# Altium footprint library Connectors_Misc.PcbLib: 46 footprints (part 3 of 3)
Each footprint in its own frame and in the unit in brackets; x right, y up, seen from the top. Pads: shape width x height; smd on the part's side, far side on the other; paste and mask are expansions set on the pad; w line width, h text height; cw(c..) or ccw(c..) is an arc to the next point about the centre after c.
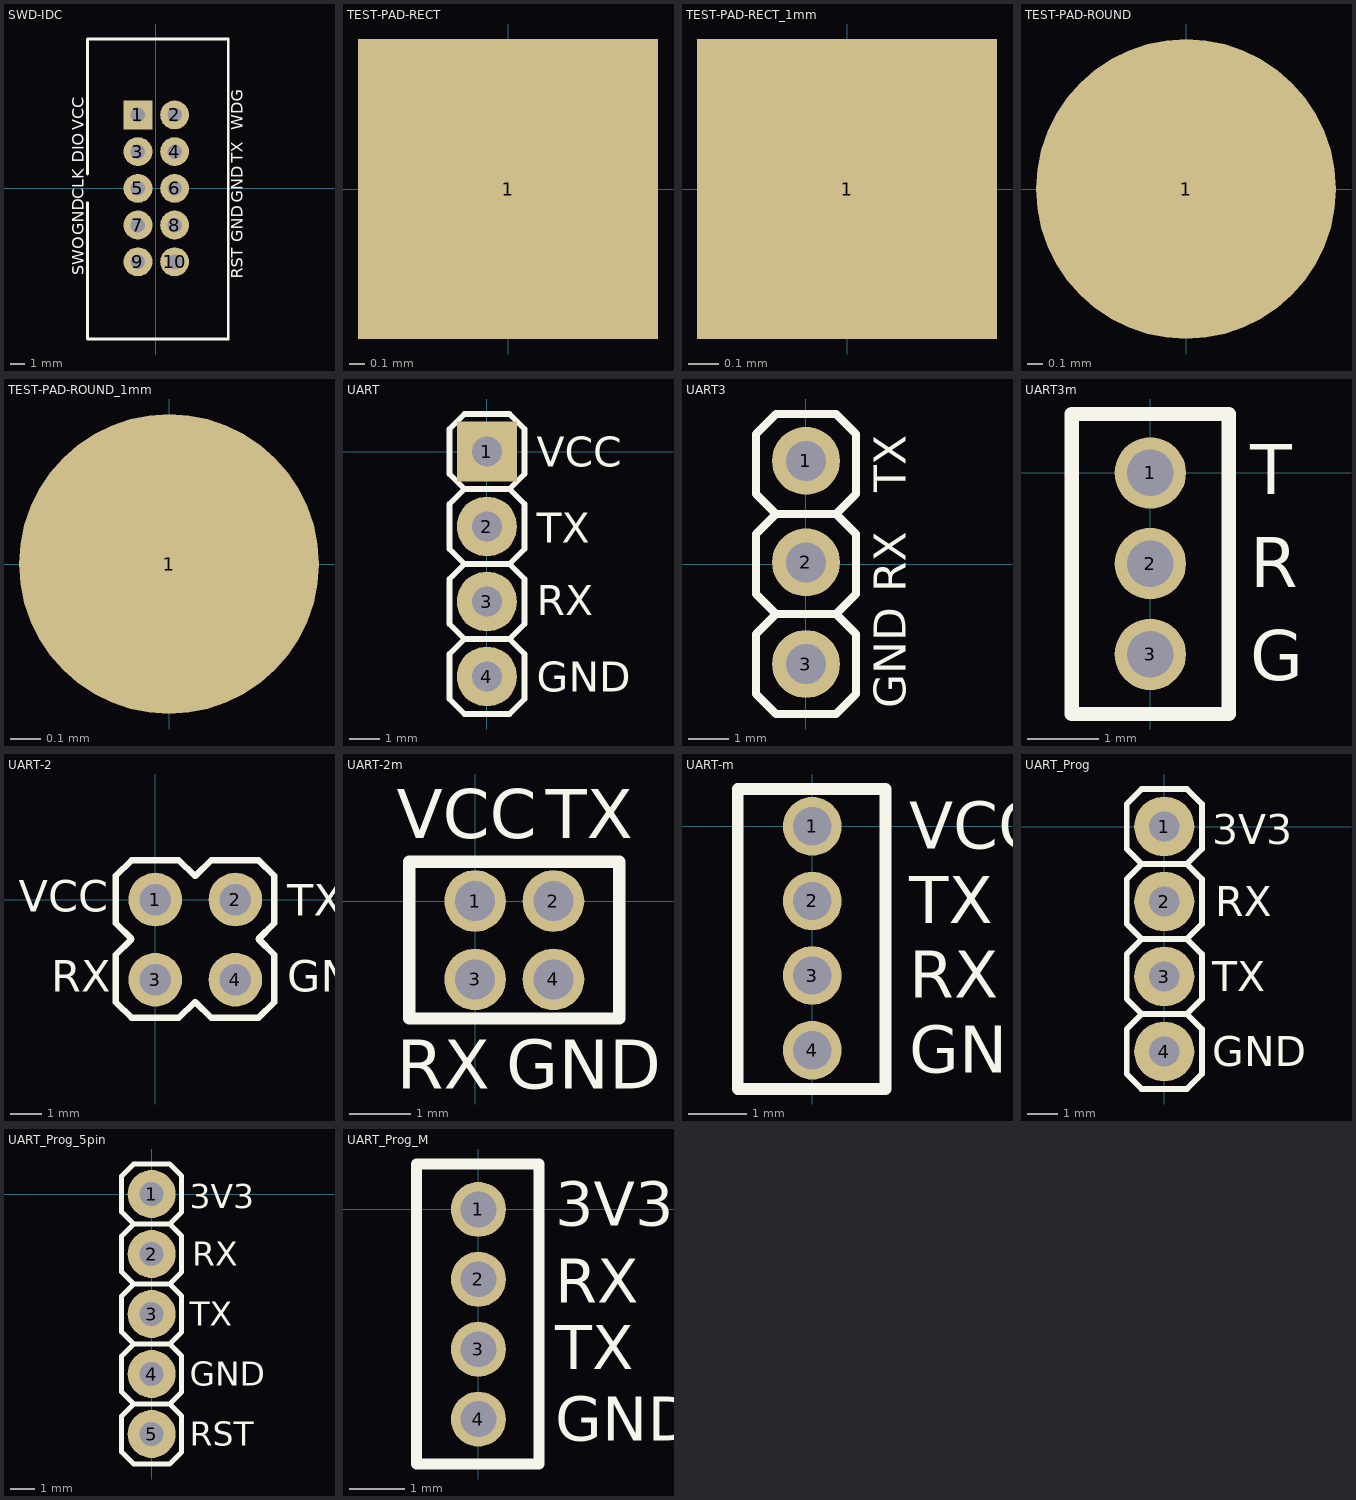
[diagram p2: the footprints below, top view; thin cyan lines are the x and y axes]

## SWD-IDC [mm]
pads (10):
  rect 2x2 hole 1: 1(-1.25,5.075)
  round 2 hole 1: 2(1.29,5.075) 3(-1.25,2.535) 4(1.29,2.535) 5(-1.25,-0.005) 6(1.29,-0.005) 7(-1.25,-2.545) 8(1.29,-2.545) 9(-1.25,-5.085) 10(1.29,-5.085)
Top Overlay:
  lines w0.2: -4.75,-1 -4.75,-10.425 5,-10.425 5,10.325 -4.75,10.325 -4.75,1
  text "RST" at 6,-6.25 h0.8
  text "GND" at 6,-3.75 h0.8
  text "GND" at 6,-1 h0.8
  text "TX" at 6,1.75 h0.8
  text "WDG" at 6,4 h0.8
  text "SWO" at -5,-6 h0.8
  text "GND" at -5,-3.25 h0.8
  text "CLK" at -5,-0.75 h0.8
  text "DIO" at -5,1.75 h0.8
  text "VCC" at -5,4 h0.8
3D body "User Library-BH-10__64BH-10.STEP": height 9.1, standoff -3, extent -4.53,-10.305 4.77,10.195

## TEST-PAD-RECT [mm]
pads (1):
  rect 2x2 smd paste-1: 1(0,0)

## TEST-PAD-RECT_1mm [mm]
pads (1):
  rect 1x1 smd paste-1: 1(0,0)

## TEST-PAD-ROUND [mm]
pads (1):
  round 2 smd paste-1: 1(0,0)

## TEST-PAD-ROUND_1mm [mm]
pads (1):
  round 1 smd paste-1: 1(0,0)

## UART [mm]
pads (4):
  rect 2x2 hole 1: 1(0,0)
  round 2 hole 1: 2(0,-2.5) 3(0,-5) 4(0,-7.5)
Top Overlay:
  lines w0.2: -0.75,-6.25 -1.25,-6.75 -1.25,-8.25 -0.75,-8.75 0.75,-8.75 1.25,-8.25 1.25,-6.75 0.75,-6.25 ; -0.75,-6.25 -1.25,-5.75 -1.25,-4.25 -0.75,-3.75 ; -0.75,-6.25 0.75,-6.25 ; -0.75,-3.75 0.75,-3.75 ; -0.75,-3.75 -1.25,-3.25 -1.25,-1.75 -0.75,-1.25 ; -0.75,-1.25 -1.25,-0.75 -1.25,0.75 -0.75,1.25 0.75,1.25 1.25,0.75 1.25,-0.75 0.75,-1.25 ; -0.75,-1.25 0.75,-1.25 ; 0.75,-6.25 1.25,-5.75 1.25,-4.25 0.75,-3.75 ; 0.75,-3.75 1.25,-3.25 1.25,-1.75 0.75,-1.25
  text "GND" at 1.651,-8.001 h1
  text "RX" at 1.651,-5.461 h1
  text "TX" at 1.651,-3.048 h1
  text "VCC" at 1.651,-0.508 h1
3D body "User Library-PLS-1.STEP": height 8.44, standoff -3, extent -1.27,-8.77 1.27,-6.23
3D body "User Library-PLS-1.STEP": height 8.44, standoff -3, extent -1.27,-6.27 1.27,-3.73
3D body "User Library-PLS-1.STEP": height 8.44, standoff -3, extent -1.27,-3.77 1.27,-1.23
3D body "User Library-PLS-1.STEP": height 8.44, standoff -3, extent -1.27,-1.27 1.27,1.27

## UART3 [mm] "UART connector 3pin"
pads (3):
  round 1.7 hole 1 paste+0: 1(0,2.58) 2(0,0.04) 3(0,-2.5)
Top Overlay:
  lines w0.2: -0.75,-1.25 -1.25,-0.75 -1.25,0.75 -0.75,1.25 ; -0.75,-1.25 -1.25,-1.75 -1.25,-3.25 -0.75,-3.75 0.75,-3.75 1.25,-3.25 1.25,-1.75 0.75,-1.25 ; -0.75,-1.25 0.75,-1.25 ; -0.75,1.25 -1.25,1.75 -1.25,3.25 -0.75,3.75 0.75,3.75 1.25,3.25 1.25,1.75 0.75,1.25 ; -0.75,1.25 0.75,1.25 ; 0.75,-1.25 1.25,-0.75 1.25,0.75 0.75,1.25
  text "TX" at 2.5,1.8 h0.8
  text "RX" at 2.5,-0.7 h0.8
  text "GND" at 2.5,-3.6 h0.8
3D body "User Library-PLS-1.STEP": height 8.44, standoff -3, extent -1.27,1.31 1.27,3.85
3D body "User Library-PLS-1.STEP": height 8.44, standoff -3, extent -1.27,-1.23 1.27,1.31
3D body "User Library-PLS-1.STEP": height 8.44, standoff -3, extent -1.27,-3.77 1.27,-1.23

## UART3m [mm] "UART 3pin PLL"
pads (3):
  round 1 hole 0.65: 1(0,0) 2(0,-1.27) 3(0,-2.54)
Top Overlay:
  lines w0.2: -1.1,-3.375 1.1,-3.375 1.1,0.825 -1.1,0.825 -1.1,-3.375
  text "T" at 1.4,-0.3 h0.7
  text "R" at 1.4,-1.6 h0.7
  text "G" at 1.4,-2.9 h0.7
3D body "PLL-3.stp": height 5.2, standoff -2.9, extent -1.1,-3.38 1.1,0.84

## UART-2 [mm]
pads (4):
  round 1.7 hole 1 paste+0: 1(0,0) 2(2.54,0) 3(0,-2.54) 4(2.54,-2.54)
Top Overlay:
  lines w0.2: 1.25,-3.25 0.75,-3.75 -0.75,-3.75 -1.25,-3.25 -1.25,-1.75 -0.75,-1.25 -1.25,-0.75 -1.25,0.75 -0.75,1.25 0.75,1.25 1.25,0.75 ; 1.275,-3.25 1.775,-3.75 3.275,-3.75 3.775,-3.25 3.775,-1.75 3.275,-1.25 3.775,-0.75 3.775,0.75 3.275,1.25 1.775,1.25 1.275,0.75
  text "VCC" at -4.318,-0.381 h1
  text "TX" at 4.191,-0.508 h1
  text "RX" at -3.302,-2.921 h1
  text "GND" at 4.191,-2.921 h1
3D body "User Library-PLS-1.STEP": height 8.44, standoff -3, extent -1.27,-1.27 1.27,1.27
3D body "User Library-PLS-1.STEP": height 8.44, standoff -3, extent 1.27,-1.27 3.81,1.27
3D body "User Library-PLS-1.STEP": height 8.44, standoff -3, extent -1.27,-3.81 1.27,-1.27
3D body "User Library-PLS-1.STEP": height 8.44, standoff -3, extent 1.27,-3.81 3.81,-1.27

## UART-2m [mm]
pads (4):
  round 1 hole 0.65: 1(0,0) 2(1.27,0) 3(0,-1.27) 4(1.27,-1.27)
Top Overlay:
  lines w0.2: -1.067,-1.905 2.337,-1.905 2.337,0.635 -1.067,0.635 -1.067,-1.905
  text "VCC" at -1.27,1.016 h0.8
  text "TX" at 1.143,1.016 h0.8
  text "RX" at -1.27,-3.048 h0.8
  text "GND" at 0.508,-3.048 h0.8
3D body "PLL-2.stp": height 5.2, standoff -2.9, extent -1.1,-2.1 1.1,0.85
3D body "PLL-2.stp": height 5.2, standoff -2.9, extent 0.17,-2.1 2.37,0.85

## UART-m [mm]
pads (4):
  round 1 hole 0.65: 1(0,0) 2(0,-1.27) 3(0,-2.54) 4(0,-3.81)
Top Overlay:
  lines w0.2: -1.27,-4.47 1.245,-4.47 1.245,0.635 -1.27,0.635 -1.27,-4.47
  text "VCC" at 1.651,-0.381 h0.8
  text "TX" at 1.651,-1.651 h0.8
  text "RX" at 1.651,-2.921 h0.8
  text "GND" at 1.651,-4.191 h0.8
3D body "PLL-2.stp": height 5.2, standoff -2.9, extent -1.1,-2.1 1.1,0.85
3D body "PLL-2.stp": height 5.2, standoff -2.9, extent -1.1,-4.64 1.1,-1.69

## UART_Prog [mm] "UART_Prog"
pads (4):
  round 2 hole 1: 1(0,0) 2(0,-2.5) 3(0,-5) 4(0,-7.5)
Top Overlay:
  lines w0.2: -0.75,-6.25 0.75,-6.25 ; -0.75,-6.25 -1.25,-5.75 -1.25,-4.25 -0.75,-3.75 ; -0.75,-6.25 -1.25,-6.75 -1.25,-8.25 -0.75,-8.75 0.75,-8.75 1.25,-8.25 1.25,-6.75 0.75,-6.25 ; -0.75,-3.75 -1.25,-3.25 -1.25,-1.75 -0.75,-1.25 ; -0.75,-3.75 0.75,-3.75 ; -0.75,-1.25 0.75,-1.25 ; -0.75,-1.25 -1.25,-0.75 -1.25,0.75 -0.75,1.25 0.75,1.25 1.25,0.75 1.25,-0.75 0.75,-1.25 ; 0.75,-6.25 1.25,-5.75 1.25,-4.25 0.75,-3.75 ; 0.75,-3.75 1.25,-3.25 1.25,-1.75 0.75,-1.25
  text "3V3" at 1.6,-0.6 h1
  text "RX" at 1.7,-3 h1
  text "TX" at 1.6,-5.5 h1
  text "GND" at 1.6,-8 h1
3D body "User Library-PLS-1.STEP": height 8.44, standoff -3, extent -1.27,-8.85 1.27,-6.31
3D body "User Library-PLS-1.STEP": height 8.44, standoff -3, extent -1.27,-1.27 1.27,1.27
3D body "User Library-PLS-1.STEP": height 8.44, standoff -3, extent -1.27,-3.81 1.27,-1.27
3D body "User Library-PLS-1.STEP": height 8.44, standoff -3, extent -1.27,-6.35 1.27,-3.81

## UART_Prog_5pin [mm]
pads (5):
  round 2 hole 1: 1(0,0) 2(0,-2.5) 3(0,-5) 4(0,-7.5) 5(0,-10)
Top Overlay:
  lines w0.2: -0.75,-8.75 -1.25,-9.25 -1.25,-10.75 -0.75,-11.25 0.75,-11.25 1.25,-10.75 1.25,-9.25 0.75,-8.75 ; -0.75,-8.75 -1.25,-8.25 -1.25,-6.75 -0.75,-6.25 ; -0.75,-8.75 0.75,-8.75 ; -0.75,-6.25 0.75,-6.25 ; -0.75,-6.25 -1.25,-5.75 -1.25,-4.25 -0.75,-3.75 ; -0.75,-3.75 -1.25,-3.25 -1.25,-1.75 -0.75,-1.25 ; -0.75,-3.75 0.75,-3.75 ; -0.75,-1.25 0.75,-1.25 ; -0.75,-1.25 -1.25,-0.75 -1.25,0.75 -0.75,1.25 0.75,1.25 1.25,0.75 1.25,-0.75 0.75,-1.25 ; 0.75,-8.75 1.25,-8.25 1.25,-6.75 0.75,-6.25 ; 0.75,-6.25 1.25,-5.75 1.25,-4.25 0.75,-3.75 ; 0.75,-3.75 1.25,-3.25 1.25,-1.75 0.75,-1.25
  text "3V3" at 1.6,-0.6 h1
  text "RX" at 1.7,-3 h1
  text "TX" at 1.6,-5.5 h1
  text "GND" at 1.6,-8 h1
  text "RST" at 1.6,-10.5 h1
3D body "User Library-PLS-1.STEP": height 8.44, standoff -3, extent -1.27,-8.85 1.27,-6.31
3D body "User Library-PLS-1.STEP": height 8.44, standoff -3, extent -1.27,-1.27 1.27,1.27
3D body "User Library-PLS-1.STEP": height 8.44, standoff -3, extent -1.27,-3.81 1.27,-1.27
3D body "User Library-PLS-1.STEP": height 8.44, standoff -3, extent -1.27,-6.35 1.27,-3.81
3D body "User Library-PLS-1.STEP": height 8.44, standoff -3, extent -1.27,-11.35 1.27,-8.81

## UART_Prog_M [mm]
pads (4):
  round 1 hole 0.65: 1(0,0) 2(0,-1.27) 3(0,-2.54) 4(0,-3.81)
Top Overlay:
  lines w0.2: -1.125,-4.625 1.1,-4.625 1.1,0.825 -1.125,0.825 -1.125,-4.625
  text "GND" at 1.4,-4.2 h0.8
  text "TX" at 1.4,-2.9 h0.8
  text "RX" at 1.4,-1.7 h0.8
  text "3V3" at 1.4,-0.3 h0.8
3D body "PLL-2.stp": height 5.2, standoff -2.9, extent -1.1,-2.1 1.1,0.85
3D body "PLL-2.stp": height 5.2, standoff -2.9, extent -1.1,-4.64 1.1,-1.69